# EAGLE library part AD822 (library di_ic)
Single-Supply, Rail-to-Rail Low Power FET-Input Op Amp http://www.analog.com/static/imported-files/Data_Sheets/AD822.pdf
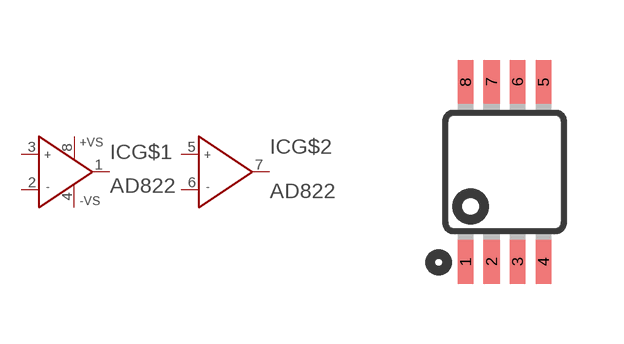
[diagram p3: symbol with the pads of MSOP8; footprint MSOP8]

Designator prefix IC; gates G$1=OP+-VS G$2=OP

## AD822  [MSOP8]
1  G$1:OUT  out
2  G$1:IN-  in
3  G$1:IN+  in
4  G$1:-VS  in
5  G$2:IN+  in
6  G$2:IN-  in
7  G$2:OUT  out
8  G$1:+VS  in

## Footprint MSOP8 (pad centres in mm)
8M, 8-Lead, 0.118" Wide, Miniature Small Outline Package MSOP 8M-Package doc1097.pdf
smd 0.4 x 1.1: 1 -0.975,-2.25; 2 -0.325,-2.25; 3 0.325,-2.25; 4 0.975,-2.25; 5 0.975,2.25; 6 0.325,2.25; 7 -0.325,2.25; 8 -0.975,2.25